# Altium footprint library MAX3485.PcbLib: 1 footprints
Each footprint in its own frame and in the unit in brackets; x right, y up, seen from the top. Pads: shape width x height; smd on the part's side, far side on the other; paste and mask are expansions set on the pad; w line width, h text height; cw(c..) or ccw(c..) is an arc to the next point about the centre after c.
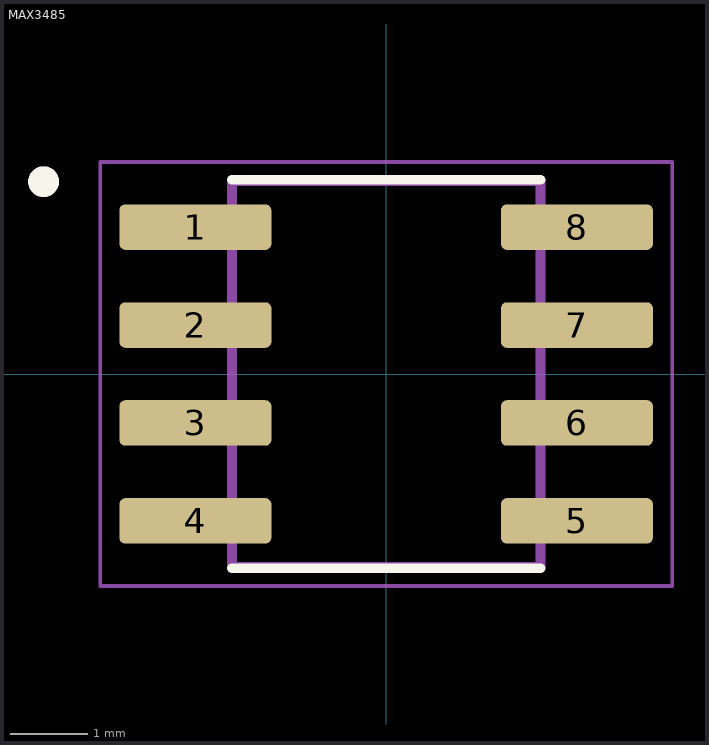
[diagram p0: the footprint, top view; thin cyan lines are the x and y axes]

## MAX3485 [mm]
pads (8):
  rrect25% 1.97x0.59 smd: 1(-2.475,1.905) 2(-2.475,0.635) 3(-2.475,-0.635) 4(-2.475,-1.905) 5(2.475,-1.905) 6(2.475,-0.635) 7(2.475,0.635) 8(2.475,1.905)
Top Overlay:
  circle w0.2: c-4.445,2.495 r0.1
  lines w0.127: -2,-2.52 2,-2.52 ; -2,2.52 2,2.52
Mechanical 13:
  circle w0.2: c-4.445,2.495 r0.1
  lines w0.127: -2,-2.5 -2,2.5 2,2.5 2,-2.5 -2,-2.5
Mechanical 15:
  lines w0.05: -3.71,-2.75 -3.71,2.75 3.71,2.75 3.71,-2.75 -3.71,-2.75
3D body "MAX3485CSA+T.stp": height 1.75, standoff 0, extent -2.873,-2.45 3.127,2.45